# Altium footprint library MT_Device.PcbLib: 67 footprints (part 5 of 5)
Each footprint in its own frame and in the unit in brackets; x right, y up, seen from the top. Pads: shape width x height; smd on the part's side, far side on the other; paste and mask are expansions set on the pad; w line width, h text height; cw(c..) or ccw(c..) is an arc to the next point about the centre after c.
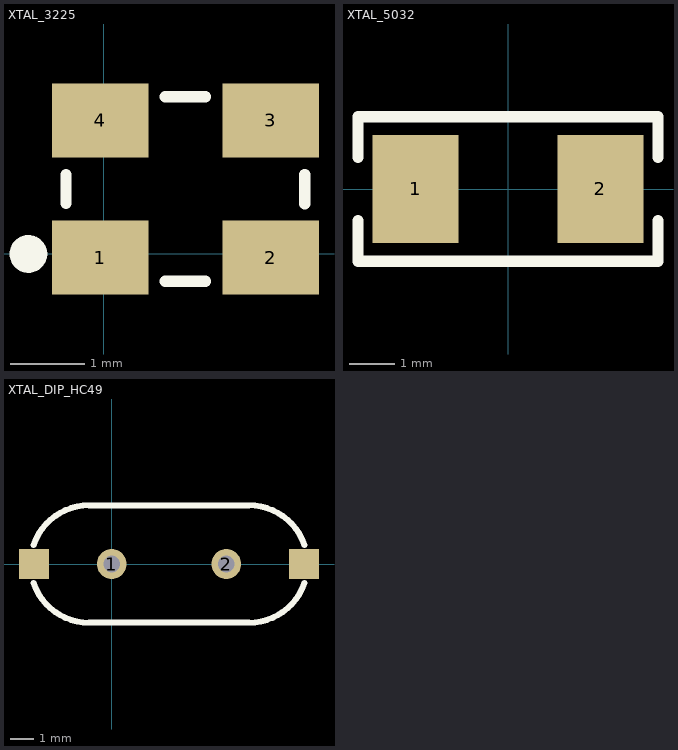
[diagram p4: the footprints below, top view; thin cyan lines are the x and y axes]

## XTAL_3225 [mm]
pads (4):
  rect 1.3x1 smd: 1(-0.05,-0.05) 2(2.25,-0.05) 3(2.25,1.8) 4(-0.05,1.8)
Top Overlay:
  circle w0.254: c-1.016,0 r0.127
  lines w0.152: -0.51,0.68 -0.51,1.07 ; 0.83,-0.37 1.37,-0.37 ; 0.83,2.12 1.37,2.12 ; 2.71,0.678 2.71,1.07
3D body "OSC3225.STEP": height 1, standoff 0, extent -0.506,-0.384 2.694,2.144

## XTAL_5032 [mm]
pads (2):
  rect 1.9x2.4 smd: 1(-2.05,0) 2(2.05,0)
Top Overlay:
  lines w0.254: -3.325,-0.7 -3.325,-1.6 3.325,-1.6 3.325,-0.7 ; -3.325,0.7 -3.325,1.6 3.325,1.6 3.325,0.7
3D body "OSC5032.STEP": height 1.2, standoff 0, extent -2.5,-1.6 2.5,1.6

## XTAL_DIP_HC49 [mil]
pads (4):
  round 50 hole 28: 1(0,0) 2(192.13,0)
  rect 50x50 smd: ""(-130.32,0) ""(322.44,0)
Top Overlay:
  lines w10: -130.92,-31.85 ccw(c-37.79,0) -37.79,-98.42 ; -130.92,31.85 cw(c-37.79,0) -37.79,98.43 ; -38,98.42 229.92,98.43 cw(c229.92,0) 323.05,31.85 ; -37.8,-98.43 229.92,-98.42 ccw(c229.92,0) 323.05,-31.85
3D body "CRYSTAL_192MIL.STEP": height 137.8, standoff -86.61, extent -121.65,-91.34 313.39,91.73